# EAGLE library part STM32F42XBXTX (library fe501_eagle_lib)
STM32F42xBxTx
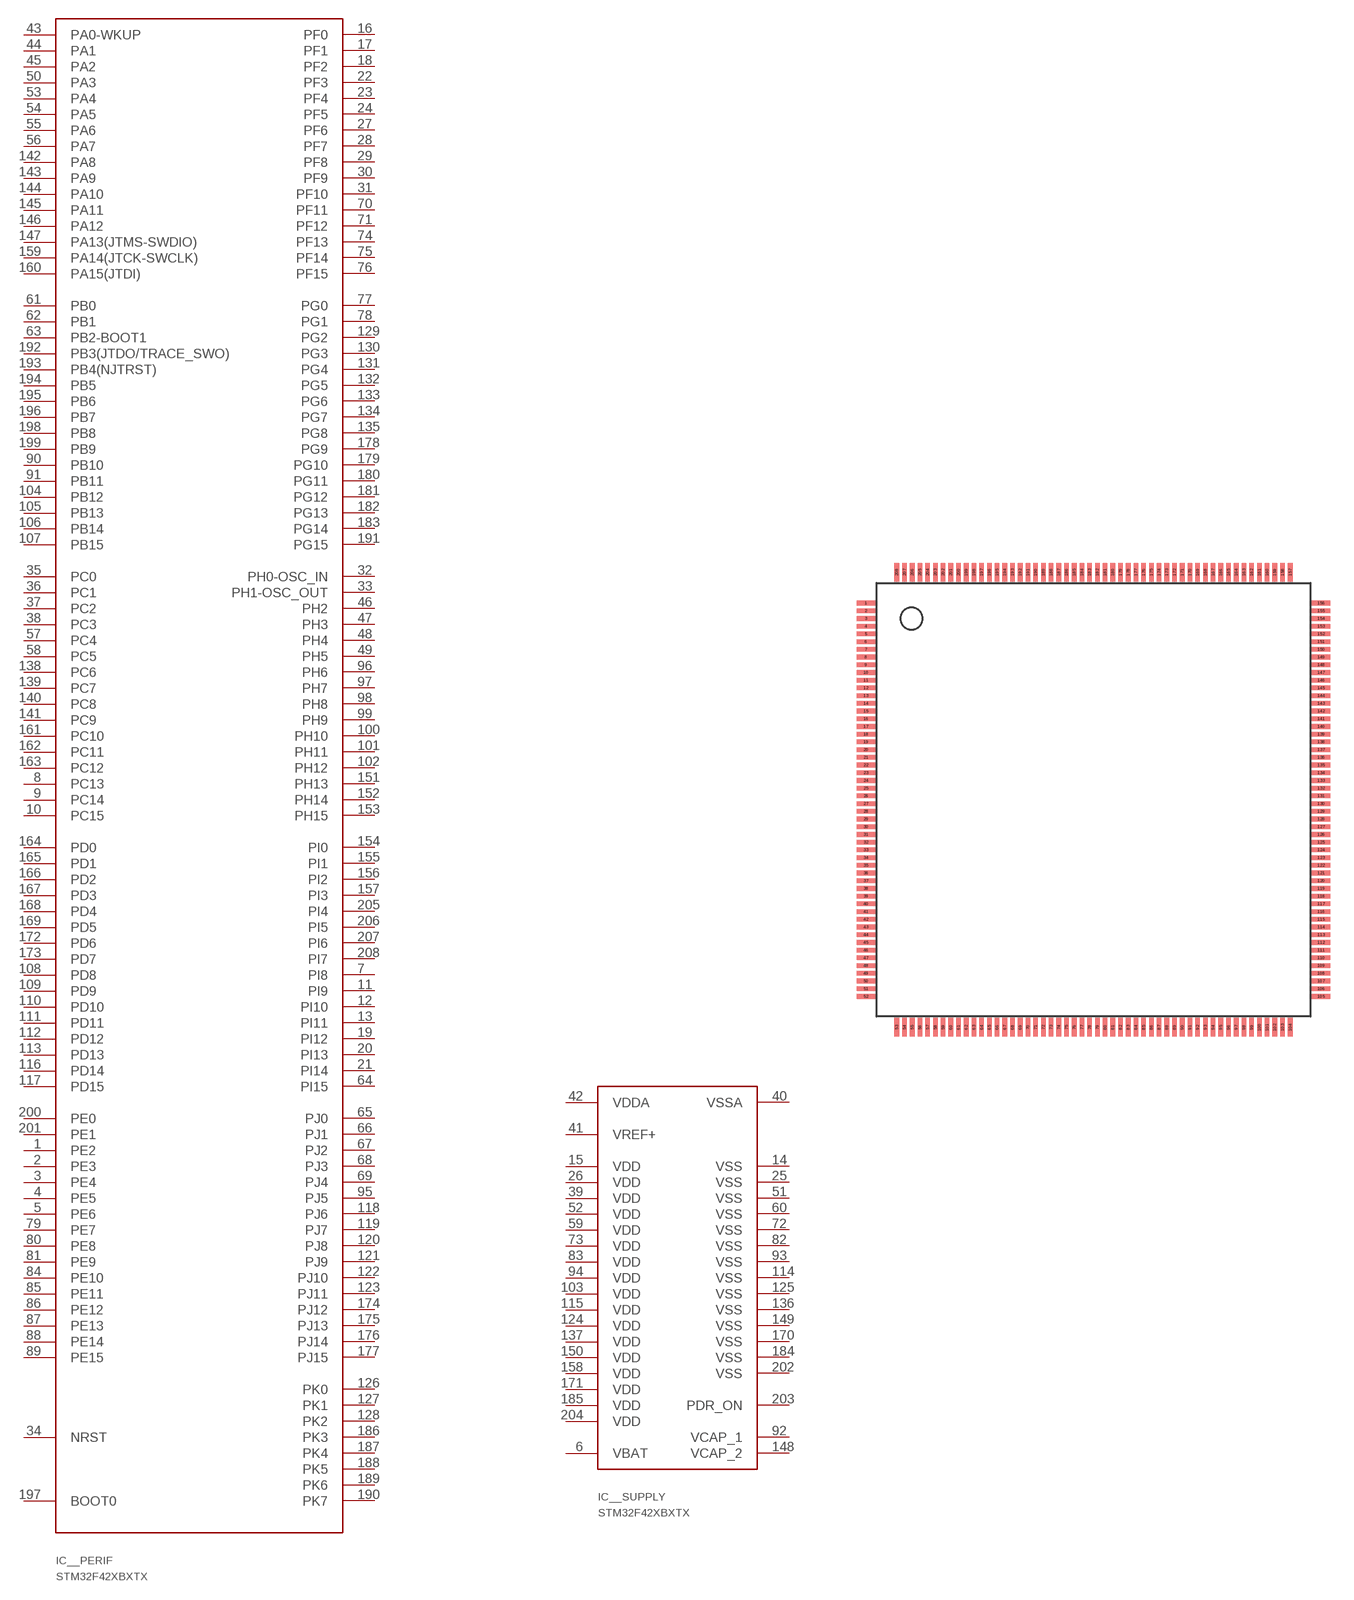
[diagram p0: symbol with the pads of LQFP208; footprint LQFP208]

Designator prefix IC; gates __SUPPLY=STM32F4XXBXTX_SUPPLY __PERIF=STM32F42XBXTX_PERIF

## STM32F42XBXTX  [LQFP208]
1  __PERIF:PE2
2  __PERIF:PE3
3  __PERIF:PE4
4  __PERIF:PE5
5  __PERIF:PE6
6  __SUPPLY:VBAT  pwr
7  __PERIF:PI8
8  __PERIF:PC13
9  __PERIF:PC14
10  __PERIF:PC15
11  __PERIF:PI9
12  __PERIF:PI10
13  __PERIF:PI11
14  __SUPPLY:VSS  pwr
15  __SUPPLY:VDD  pwr
16  __PERIF:PF0
17  __PERIF:PF1
18  __PERIF:PF2
19  __PERIF:PI12
20  __PERIF:PI13
21  __PERIF:PI14
22  __PERIF:PF3
23  __PERIF:PF4
24  __PERIF:PF5
25  __SUPPLY:VSS  pwr
26  __SUPPLY:VDD  pwr
27  __PERIF:PF6
28  __PERIF:PF7
29  __PERIF:PF8
30  __PERIF:PF9
31  __PERIF:PF10
32  __PERIF:PH0-OSC_IN
33  __PERIF:PH1-OSC_OUT
34  __PERIF:NRST
35  __PERIF:PC0
36  __PERIF:PC1
37  __PERIF:PC2
38  __PERIF:PC3
39  __SUPPLY:VDD  pwr
40  __SUPPLY:VSSA  pwr
41  __SUPPLY:VREF+  pwr
42  __SUPPLY:VDDA  pwr
43  __PERIF:PA0-WKUP
44  __PERIF:PA1
45  __PERIF:PA2
46  __PERIF:PH2
47  __PERIF:PH3
48  __PERIF:PH4
49  __PERIF:PH5
50  __PERIF:PA3
51  __SUPPLY:VSS  pwr
52  __SUPPLY:VDD  pwr
53  __PERIF:PA4
54  __PERIF:PA5
55  __PERIF:PA6
56  __PERIF:PA7
57  __PERIF:PC4
58  __PERIF:PC5
59  __SUPPLY:VDD  pwr
60  __SUPPLY:VSS  pwr
61  __PERIF:PB0
62  __PERIF:PB1
63  __PERIF:PB2-BOOT1
64  __PERIF:PI15
65  __PERIF:PJ0
66  __PERIF:PJ1
67  __PERIF:PJ2
68  __PERIF:PJ3
69  __PERIF:PJ4
70  __PERIF:PF11
71  __PERIF:PF12
72  __SUPPLY:VSS  pwr
73  __SUPPLY:VDD  pwr
74  __PERIF:PF13
75  __PERIF:PF14
76  __PERIF:PF15
77  __PERIF:PG0
78  __PERIF:PG1
79  __PERIF:PE7
80  __PERIF:PE8
81  __PERIF:PE9
82  __SUPPLY:VSS  pwr
83  __SUPPLY:VDD  pwr
84  __PERIF:PE10
85  __PERIF:PE11
86  __PERIF:PE12
87  __PERIF:PE13
88  __PERIF:PE14
89  __PERIF:PE15
90  __PERIF:PB10
91  __PERIF:PB11
92  __SUPPLY:VCAP_1  pwr
93  __SUPPLY:VSS  pwr
94  __SUPPLY:VDD  pwr
95  __PERIF:PJ5
96  __PERIF:PH6
97  __PERIF:PH7
98  __PERIF:PH8
99  __PERIF:PH9
100  __PERIF:PH10
101  __PERIF:PH11
102  __PERIF:PH12
103  __SUPPLY:VDD  pwr
104  __PERIF:PB12
105  __PERIF:PB13
106  __PERIF:PB14
107  __PERIF:PB15
108  __PERIF:PD8
109  __PERIF:PD9
110  __PERIF:PD10
111  __PERIF:PD11
112  __PERIF:PD12
113  __PERIF:PD13
114  __SUPPLY:VSS  pwr
115  __SUPPLY:VDD  pwr
116  __PERIF:PD14
117  __PERIF:PD15
118  __PERIF:PJ6
119  __PERIF:PJ7
120  __PERIF:PJ8
121  __PERIF:PJ9
122  __PERIF:PJ10
123  __PERIF:PJ11
124  __SUPPLY:VDD  pwr
125  __SUPPLY:VSS  pwr
126  __PERIF:PK0
127  __PERIF:PK1
128  __PERIF:PK2
129  __PERIF:PG2
130  __PERIF:PG3
131  __PERIF:PG4
132  __PERIF:PG5
133  __PERIF:PG6
134  __PERIF:PG7
135  __PERIF:PG8
136  __SUPPLY:VSS  pwr
137  __SUPPLY:VDD  pwr
138  __PERIF:PC6
139  __PERIF:PC7
140  __PERIF:PC8
141  __PERIF:PC9
142  __PERIF:PA8
143  __PERIF:PA9
144  __PERIF:PA10
145  __PERIF:PA11
146  __PERIF:PA12
147  __PERIF:PA13(JTMS-SWDIO)
148  __SUPPLY:VCAP_2  pwr
149  __SUPPLY:VSS  pwr
150  __SUPPLY:VDD  pwr
151  __PERIF:PH13
152  __PERIF:PH14
153  __PERIF:PH15
154  __PERIF:PI0
155  __PERIF:PI1
156  __PERIF:PI2
157  __PERIF:PI3
158  __SUPPLY:VDD  pwr
159  __PERIF:PA14(JTCK-SWCLK)
160  __PERIF:PA15(JTDI)
161  __PERIF:PC10
162  __PERIF:PC11
163  __PERIF:PC12
164  __PERIF:PD0
165  __PERIF:PD1
166  __PERIF:PD2
167  __PERIF:PD3
168  __PERIF:PD4
169  __PERIF:PD5
170  __SUPPLY:VSS  pwr
171  __SUPPLY:VDD  pwr
172  __PERIF:PD6
173  __PERIF:PD7
174  __PERIF:PJ12
175  __PERIF:PJ13
176  __PERIF:PJ14
177  __PERIF:PJ15
178  __PERIF:PG9
179  __PERIF:PG10
180  __PERIF:PG11
181  __PERIF:PG12
182  __PERIF:PG13
183  __PERIF:PG14
184  __SUPPLY:VSS  pwr
185  __SUPPLY:VDD  pwr
186  __PERIF:PK3
187  __PERIF:PK4
188  __PERIF:PK5
189  __PERIF:PK6
190  __PERIF:PK7
191  __PERIF:PG15
192  __PERIF:PB3(JTDO/TRACE_SWO)
193  __PERIF:PB4(NJTRST)
194  __PERIF:PB5
195  __PERIF:PB6
196  __PERIF:PB7
197  __PERIF:BOOT0
198  __PERIF:PB8
199  __PERIF:PB9
200  __PERIF:PE0
201  __PERIF:PE1
202  __SUPPLY:VSS  pwr
203  __SUPPLY:PDR_ON  pwr
204  __SUPPLY:VDD  pwr
205  __PERIF:PI4
206  __PERIF:PI5
207  __PERIF:PI6
208  __PERIF:PI7

## Footprint LQFP208 (pad centres in mm)
LQFP208 Package
smd 1.2 x 0.3: 1 -14.75,12.75; 2 -14.75,12.25; 3 -14.75,11.75; 4 -14.75,11.25; 5 -14.75,10.75; 6 -14.75,10.25; 7 -14.75,9.75; 8 -14.75,9.25; 9 -14.75,8.75; 10 -14.75,8.25; 11 -14.75,7.75; 12 -14.75,7.25; 13 -14.75,6.75; 14 -14.75,6.25; 15 -14.75,5.75; 16 -14.75,5.25; 17 -14.75,4.75; 18 -14.75,4.25; 19 -14.75,3.75; 20 -14.75,3.25; 21 -14.75,2.75; 22 -14.75,2.25; 23 -14.75,1.75; 24 -14.75,1.25; 25 -14.75,0.75; 26 -14.75,0.25; 27 -14.75,-0.25; 28 -14.75,-0.75; 29 -14.75,-1.25; 30 -14.75,-1.75; 31 -14.75,-2.25; 32 -14.75,-2.75; 33 -14.75,-3.25; 34 -14.75,-3.75; 35 -14.75,-4.25; 36 -14.75,-4.75; 37 -14.75,-5.25; 38 -14.75,-5.75; 39 -14.75,-6.25; 40 -14.75,-6.75; 41 -14.75,-7.25; 42 -14.75,-7.75; 43 -14.75,-8.25; 44 -14.75,-8.75; 45 -14.75,-9.25; 46 -14.75,-9.75; 47 -14.75,-10.25; 48 -14.75,-10.75; 49 -14.75,-11.25; 50 -14.75,-11.75; 51 -14.75,-12.25; 52 -14.75,-12.75; 105 14.75,-12.75; 106 14.75,-12.25; 107 14.75,-11.75; 108 14.75,-11.25; 109 14.75,-10.75; 110 14.75,-10.25; 111 14.75,-9.75; 112 14.75,-9.25; 113 14.75,-8.75; 114 14.75,-8.25; 115 14.75,-7.75; 116 14.75,-7.25; 117 14.75,-6.75; 118 14.75,-6.25; 119 14.75,-5.75; 120 14.75,-5.25; 121 14.75,-4.75; 122 14.75,-4.25; 123 14.75,-3.75; 124 14.75,-3.25; 125 14.75,-2.75; 126 14.75,-2.25; 127 14.75,-1.75; 128 14.75,-1.25; 129 14.75,-0.75; 130 14.75,-0.25; 131 14.75,0.25; 132 14.75,0.75; 133 14.75,1.25; 134 14.75,1.75; 135 14.75,2.25; 136 14.75,2.75; 137 14.75,3.25; 138 14.75,3.75; 139 14.75,4.25; 140 14.75,4.75; 141 14.75,5.25; 142 14.75,5.75; 143 14.75,6.25; 144 14.75,6.75; 145 14.75,7.25; 146 14.75,7.75; 147 14.75,8.25; 148 14.75,8.75; 149 14.75,9.25; 150 14.75,9.75; 151 14.75,10.25; 152 14.75,10.75; 153 14.75,11.25; 154 14.75,11.75; 155 14.75,12.25; 156 14.75,12.75
smd 0.3 x 1.2: 53 -12.75,-14.75; 54 -12.25,-14.75; 55 -11.75,-14.75; 56 -11.25,-14.75; 57 -10.75,-14.75; 58 -10.25,-14.75; 59 -9.75,-14.75; 60 -9.25,-14.75; 61 -8.75,-14.75; 62 -8.25,-14.75; 63 -7.75,-14.75; 64 -7.25,-14.75; 65 -6.75,-14.75; 66 -6.25,-14.75; 67 -5.75,-14.75; 68 -5.25,-14.75; 69 -4.75,-14.75; 70 -4.25,-14.75; 71 -3.75,-14.75; 72 -3.25,-14.75; 73 -2.75,-14.75; 74 -2.25,-14.75; 75 -1.75,-14.75; 76 -1.25,-14.75; 77 -0.75,-14.75; 78 -0.25,-14.75; 79 0.25,-14.75; 80 0.75,-14.75; 81 1.25,-14.75; 82 1.75,-14.75; 83 2.25,-14.75; 84 2.75,-14.75; 85 3.25,-14.75; 86 3.75,-14.75; 87 4.25,-14.75; 88 4.75,-14.75; 89 5.25,-14.75; 90 5.75,-14.75; 91 6.25,-14.75; 92 6.75,-14.75; 93 7.25,-14.75; 94 7.75,-14.75; 95 8.25,-14.75; 96 8.75,-14.75; 97 9.25,-14.75; 98 9.75,-14.75; 99 10.25,-14.75; 100 10.75,-14.75; 101 11.25,-14.75; 102 11.75,-14.75; 103 12.25,-14.75; 104 12.75,-14.75; 157 12.75,14.75; 158 12.25,14.75; 159 11.75,14.75; 160 11.25,14.75; 161 10.75,14.75; 162 10.25,14.75; 163 9.75,14.75; 164 9.25,14.75; 165 8.75,14.75; 166 8.25,14.75; 167 7.75,14.75; 168 7.25,14.75; 169 6.75,14.75; 170 6.25,14.75; 171 5.75,14.75; 172 5.25,14.75; 173 4.75,14.75; 174 4.25,14.75; 175 3.75,14.75; 176 3.25,14.75; 177 2.75,14.75; 178 2.25,14.75; 179 1.75,14.75; 180 1.25,14.75; 181 0.75,14.75; 182 0.25,14.75; 183 -0.25,14.75; 184 -0.75,14.75; 185 -1.25,14.75; 186 -1.75,14.75; 187 -2.25,14.75; 188 -2.75,14.75; 189 -3.25,14.75; 190 -3.75,14.75; 191 -4.25,14.75; 192 -4.75,14.75; 193 -5.25,14.75; 194 -5.75,14.75; 195 -6.25,14.75; 196 -6.75,14.75; 197 -7.25,14.75; 198 -7.75,14.75; 199 -8.25,14.75; 200 -8.75,14.75; 201 -9.25,14.75; 202 -9.75,14.75; 203 -10.25,14.75; 204 -10.75,14.75; 205 -11.25,14.75; 206 -11.75,14.75; 207 -12.25,14.75; 208 -12.75,14.75